# Altium footprint library PcbLib1.PcbLib: 4 footprints
Each footprint in its own frame and in the unit in brackets; x right, y up, seen from the top. Pads: shape width x height; smd on the part's side, far side on the other; paste and mask are expansions set on the pad; w line width, h text height; cw(c..) or ccw(c..) is an arc to the next point about the centre after c.
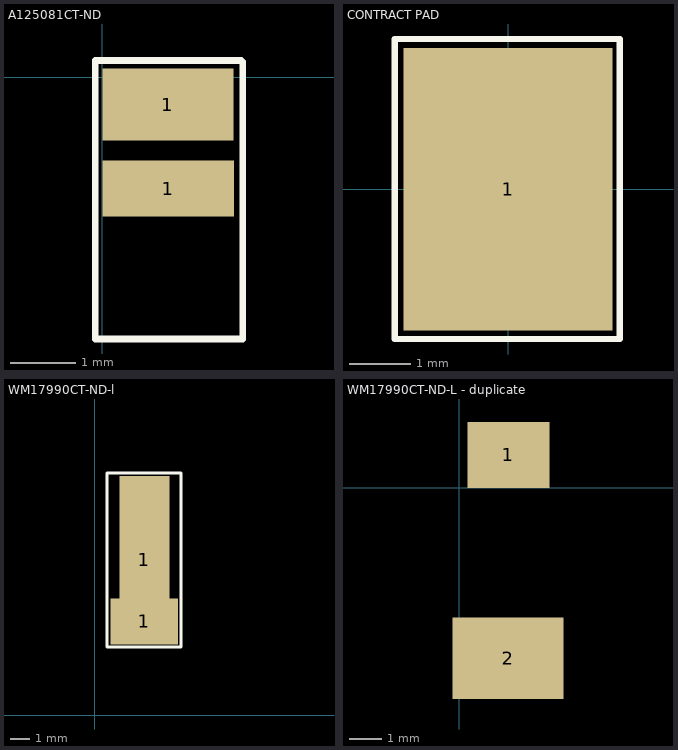
[diagram p0: the footprints below, top view; thin cyan lines are the x and y axes]

## A125081CT-ND [mm]
pads (2):
  rect 2x1.1 smd: 1(1,-0.42)
  rect 2x0.85 smd: 1(1.003,-1.7)
Top Overlay:
  lines w0.102: -0.107,-3.994 -0.107,0.252 2.118,0.252 2.138,0.232 2.138,-3.994 -0.107,-3.994
3D body "c-2286211-3-a-3d.stp": height 2.29, standoff -0.09, extent 0.15,-3.962 1.85,0.038

## CONTRACT PAD [mm]
pads (1):
  rect 3.4x4.6 smd: 1(0,0)
Top Overlay:
  lines w0.102: -1.845,-2.439 1.82,-2.439 1.82,2.445 -1.845,2.445 -1.845,-2.439

## WM17990CT-ND-l [mm]
height 2.9
pads (2):
  rect 3.4x2.3 smd mask+0.1: 1(2.5,4.725)
  rect 2.5x8.4 smd mask+0.1: 1(2.5,7.831)
Top Layer:
  region: 0.318,9.449
  region: -3.81,6.731
Top Overlay:
  lines w0.152: 0.613,3.429 4.346,3.429 4.346,12.202 0.613,12.202 0.613,3.429
Top Solder:
  pour cut-out: 11.28,8.056
3D body "2038638103.stp": height 2.9, standoff -0.1, extent 1,4.05 4,12.05

## WM17990CT-ND-L - duplicate [mm]
height 2.9
pads (2):
  rect 2.5x2 smd: 1(1.5,1)
  rect 3.4x2.5 smd mask+0.102: 2(1.486,-5.2)
3D body "2038638103.stp": height 3, standoff 0, extent 0.013,-6.197 3.013,1.803